# Altium schematic symbol library 14110413001000.SchLib: 1 symbol
Pins are listed as number, name and electrical type; pins without a type are passive.

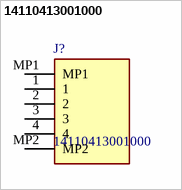
[diagram p0: symbol 14110413001000]

## 14110413001000
designator J?
har-flexicon, 4pin male, vertical SMT pcb mount, 6Amps, pitch 2.54mm, 500pc reel; Manufacturer_Name: HARTING; Geometry.Height: 7.45mm; Manufacturer_Part_Number: 14110413001000; Mouser Part Number: 617-14110413001000; Mouser Price/Stock: https://www.mouser.co.uk/ProductDetail/HARTING/14110413001000?qs=9nYkJLYMUzsAxBjeg8lEaQ%3D%3D; Arrow Part Number: 14110413001000; Arrow Price/Stock: https://www.arrow.com/en/products/14110413001000/harting; Datasheet Link: https://b2b.harting.com/files/download/PRD/PDF_DS/PDF_DS_14111400301.pdf
footprint 14110413001000
pins: 1, 2, 3, 4, MP1, MP2